# EAGLE library part DWM1000 (library DWM1000)
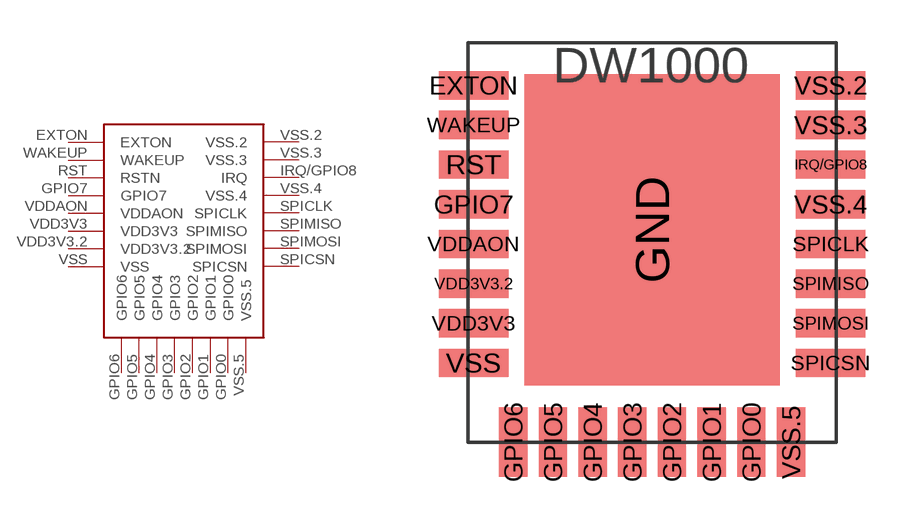
[diagram p0: symbol with the pads of DWM1000; footprint DWM1000]

Designator prefix -

## DWM1000  [DWM1000]
EXTON  EXTON
GPIO0  GPIO0
GPIO1  GPIO1
GPIO2  GPIO2
GPIO3  GPIO3
GPIO4  GPIO4
GPIO5  GPIO5
GPIO6  GPIO6
GPIO7  GPIO7
IRQ/GPIO8  IRQ
RST  RSTN
SPICLK  SPICLK
SPICSN  SPICSN
SPIMISO  SPIMISO
SPIMOSI  SPIMOSI
VDD3V3  VDD3V3
VDD3V3.2  VDD3V3.2
VDDAON  VDDAON
VSS  VSS
VSS.2  VSS.2
VSS.3  VSS.3
VSS.4  VSS.4
VSS.5  VSS.5
WAKEUP  WAKEUP

## Footprint DWM1000 (pad centres in mm)
smd 2.45 x 1: EXTON -2.8,12.6; GPIO7 -2.8,8.4; IRQ/GPIO8 9.8,9.8; RST -2.8,9.8; SPICLK 9.8,7; SPICSN 9.8,2.8; SPIMISO 9.8,5.6; SPIMOSI 9.8,4.2; VDD3V3 -2.8,4.2; VDD3V3.2 -2.8,5.6; VDDAON -2.8,7; VSS -2.8,2.8; VSS.2 9.8,12.6; VSS.3 9.8,11.2; VSS.4 9.8,8.4; WAKEUP -2.8,11.2
smd 9 x 11: GND 3.5,7.5
smd 1 x 2.45: GPIO0 7,0; GPIO1 5.6,0; GPIO2 4.2,0; GPIO3 2.8,0; GPIO4 1.4,0; GPIO5 0,0; GPIO6 -1.4,0; VSS.5 8.4,0